# Altium schematic symbol library Schlib1.SchLib: 18 symbols
Pins are listed as number, name and electrical type; pins without a type are passive.

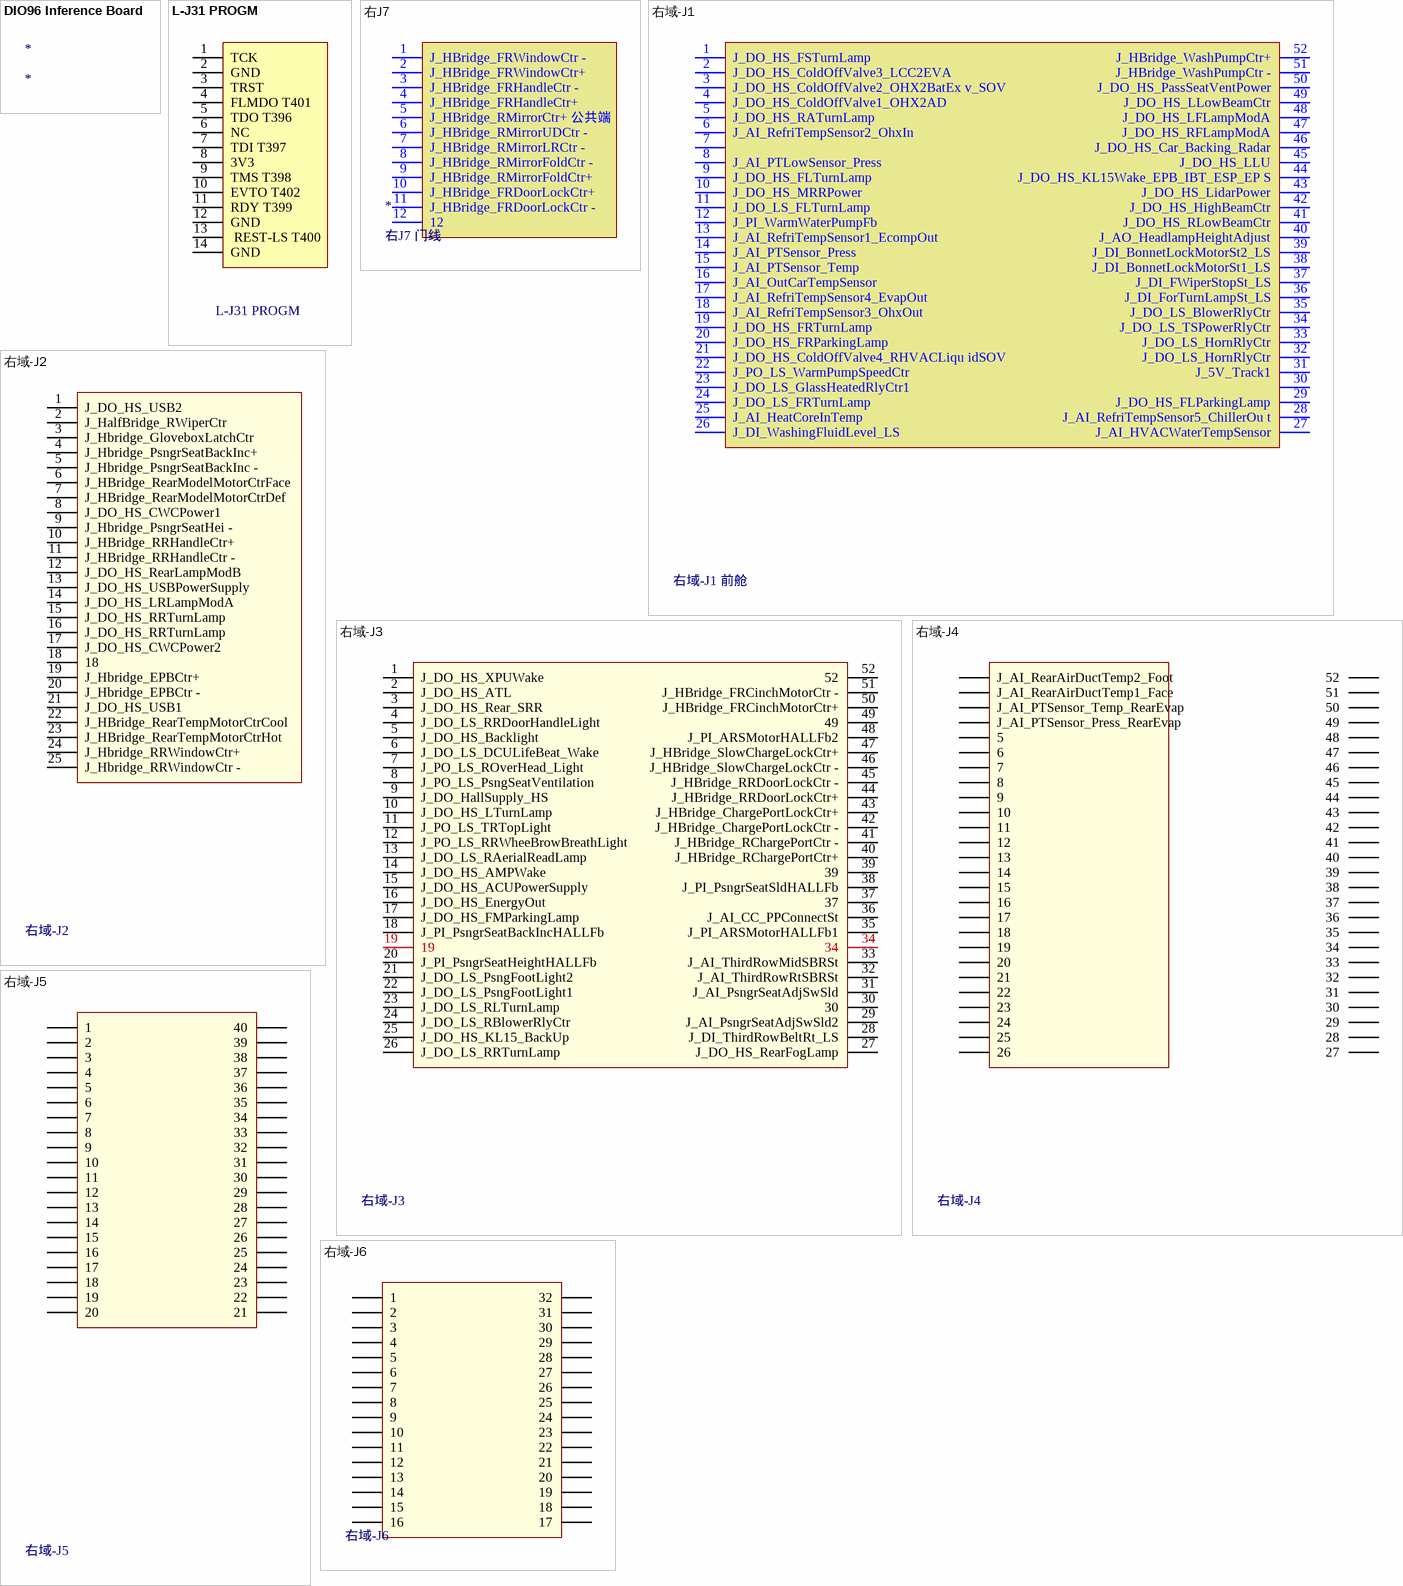
[diagram p0: symbols DIO96 Inference Board to 右域-J6]

## DIO96 Inference Board
designator *

## L-J31 PROGM
designator *
pins: 1 TCK, 2 GND, 3 TRST, 4 FLMDO T401, 5 TDO T396, 6 NC, 7 TDI T397, 8 3V3, 9 TMS T398, 10 EVTO T402, 11 RDY T399, 12 GND, 13  REST-LS T400, 14 GND

## 右J7
designator *, comment 右J7 门线
pins: 1 J_HBridge_FRWindowCtr -, 2 J_HBridge_FRWindowCtr+, 3 J_HBridge_FRHandleCtr -, 4 J_HBridge_FRHandleCtr+, 5 J_HBridge_RMirrorCtr+ 公共端, 6 J_HBridge_RMirrorUDCtr -, 7 J_HBridge_RMirrorLRCtr -, 8 J_HBridge_RMirrorFoldCtr -, 9 J_HBridge_RMirrorFoldCtr+, 10 J_HBridge_FRDoorLockCtr+, 11 J_HBridge_FRDoorLockCtr -, 12

## 右域-J1
designator *, comment 右域-J1 前舱
pins: 1 J_DO_HS_FSTurnLamp, 2 J_DO_HS_ColdOffValve3_LCC2EVA, 3 J_DO_HS_ColdOffValve2_OHX2BatEx v_SOV, 4 J_DO_HS_ColdOffValve1_OHX2AD, 5 J_DO_HS_RATurnLamp, 6 J_AI_RefriTempSensor2_OhxIn, 7, 8 J_AI_PTLowSensor_Press, 9 J_DO_HS_FLTurnLamp, 10 J_DO_HS_MRRPower, 11 J_DO_LS_FLTurnLamp, 12 J_PI_WarmWaterPumpFb, 13 J_AI_RefriTempSensor1_EcompOut, 14 J_AI_PTSensor_Press, 15 J_AI_PTSensor_Temp, 16 J_AI_OutCarTempSensor, 17 J_AI_RefriTempSensor4_EvapOut, 18 J_AI_RefriTempSensor3_OhxOut, 19 J_DO_HS_FRTurnLamp, 20 J_DO_HS_FRParkingLamp, 21 J_DO_HS_ColdOffValve4_RHVACLiqu idSOV, 22 J_PO_LS_WarmPumpSpeedCtr, 23 J_DO_LS_GlassHeatedRlyCtr1, 24 J_DO_LS_FRTurnLamp, 25 J_AI_HeatCoreInTemp, 26 J_DI_WashingFluidLevel_LS, 27 J_AI_HVACWaterTempSensor, 28 J_AI_RefriTempSensor5_ChillerOu t, 29 J_DO_HS_FLParkingLamp, 30, 31 J_5V_Track1, 32 J_DO_LS_HornRlyCtr, 33 J_DO_LS_HornRlyCtr, 34 J_DO_LS_TSPowerRlyCtr, 35 J_DO_LS_BlowerRlyCtr, 36 J_DI_ForTurnLampSt_LS, 37 J_DI_FWiperStopSt_LS, 38 J_DI_BonnetLockMotorSt1_LS, 39 J_DI_BonnetLockMotorSt2_LS, 40 J_AO_HeadlampHeightAdjust, 41 J_DO_HS_RLowBeamCtr, 42 J_DO_HS_HighBeamCtr, 43 J_DO_HS_LidarPower, 44 J_DO_HS_KL15Wake_EPB_IBT_ESP_EP S, 45 J_DO_HS_LLU, 46 J_DO_HS_Car_Backing_Radar, 47 J_DO_HS_RFLampModA, 48 J_DO_HS_LFLampModA, 49 J_DO_HS_LLowBeamCtr, 50 J_DO_HS_PassSeatVentPower, 51 J_HBridge_WashPumpCtr -, 52 J_HBridge_WashPumpCtr+

## 右域-J2
designator *
pins: 1 J_DO_HS_USB2, 2 J_HalfBridge_RWiperCtr, 3 J_Hbridge_GloveboxLatchCtr, 4 J_Hbridge_PsngrSeatBackInc+, 5 J_Hbridge_PsngrSeatBackInc -, 6 J_HBridge_RearModelMotorCtrFace, 7 J_HBridge_RearModelMotorCtrDef, 8 J_DO_HS_CWCPower1, 9 J_Hbridge_PsngrSeatHei -, 10 J_HBridge_RRHandleCtr+, 11 J_HBridge_RRHandleCtr -, 12 J_DO_HS_RearLampModB, 13 J_DO_HS_USBPowerSupply, 14 J_DO_HS_LRLampModA, 15 J_DO_HS_RRTurnLamp, 16 J_DO_HS_RRTurnLamp, 17 J_DO_HS_CWCPower2, 18, 19 J_Hbridge_EPBCtr+, 20 J_Hbridge_EPBCtr -, 21 J_DO_HS_USB1, 22 J_HBridge_RearTempMotorCtrCool, 23 J_HBridge_RearTempMotorCtrHot, 24 J_Hbridge_RRWindowCtr+, 25 J_Hbridge_RRWindowCtr -

## 右域-J3
designator *
pins: 1 J_DO_HS_XPUWake, 2 J_DO_HS_ATL, 3 J_DO_HS_Rear_SRR, 4 J_DO_LS_RRDoorHandleLight, 5 J_DO_HS_Backlight, 6 J_DO_LS_DCULifeBeat_Wake, 7 J_PO_LS_ROverHead_Light, 8 J_PO_LS_PsngSeatVentilation, 9 J_DO_HallSupply_HS, 10 J_DO_HS_LTurnLamp, 11 J_PO_LS_TRTopLight, 12 J_PO_LS_RRWheeBrowBreathLight, 13 J_DO_LS_RAerialReadLamp, 14 J_DO_HS_AMPWake, 15 J_DO_HS_ACUPowerSupply, 16 J_DO_HS_EnergyOut, 17 J_DO_HS_FMParkingLamp, 18 J_PI_PsngrSeatBackIncHALLFb, 19, 20 J_PI_PsngrSeatHeightHALLFb, 21 J_DO_LS_PsngFootLight2, 22 J_DO_LS_PsngFootLight1, 23 J_DO_LS_RLTurnLamp, 24 J_DO_LS_RBlowerRlyCtr, 25 J_DO_HS_KL15_BackUp, 26 J_DO_LS_RRTurnLamp, 27 J_DO_HS_RearFogLamp, 28 J_DI_ThirdRowBeltRt_LS, 29 J_AI_PsngrSeatAdjSwSld2, 30, 31 J_AI_PsngrSeatAdjSwSld, 32 J_AI_ThirdRowRtSBRSt, 33 J_AI_ThirdRowMidSBRSt, 34, 35 J_PI_ARSMotorHALLFb1, 36 J_AI_CC_PPConnectSt, 37, 38 J_PI_PsngrSeatSldHALLFb, 39, 40 J_HBridge_RChargePortCtr+, 41 J_HBridge_RChargePortCtr -, 42 J_HBridge_ChargePortLockCtr -, 43 J_HBridge_ChargePortLockCtr+, 44 J_HBridge_RRDoorLockCtr+, 45 J_HBridge_RRDoorLockCtr -, 46 J_HBridge_SlowChargeLockCtr -, 47 J_HBridge_SlowChargeLockCtr+, 48 J_PI_ARSMotorHALLFb2, 49, 50 J_HBridge_FRCinchMotorCtr+, 51 J_HBridge_FRCinchMotorCtr -, 52

## 右域-J4
designator *
pins: 1 J_AI_RearAirDuctTemp2_Foot, 2 J_AI_RearAirDuctTemp1_Face, 3 J_AI_PTSensor_Temp_RearEvap, 4 J_AI_PTSensor_Press_RearEvap, 5, 6, 7, 8, 9, 10, 11, 12, 13, 14, 15, 16, 17, 18, 19, 20, 21, 22, 23, 24, 25, 26, 27, 28, 29, 30, 31, 32, 33, 34, 35, 36, 37, 38, 39, 40, 41, 42, 43, 44, 45, 46, 47, 48, 49, 50, 51, 52

## 右域-J5
designator *
pins: 1, 2, 3, 4, 5, 6, 7, 8, 9, 10, 11, 12, 13, 14, 15, 16, 17, 18, 19, 20, 21, 22, 23, 24, 25, 26, 27, 28, 29, 30, 31, 32, 33, 34, 35, 36, 37, 38, 39, 40

## 右域-J6
designator *
pins: 1, 2, 3, 4, 5, 6, 7, 8, 9, 10, 11, 12, 13, 14, 15, 16, 17, 18, 19, 20, 21, 22, 23, 24, 25, 26, 27, 28, 29, 30, 31, 32

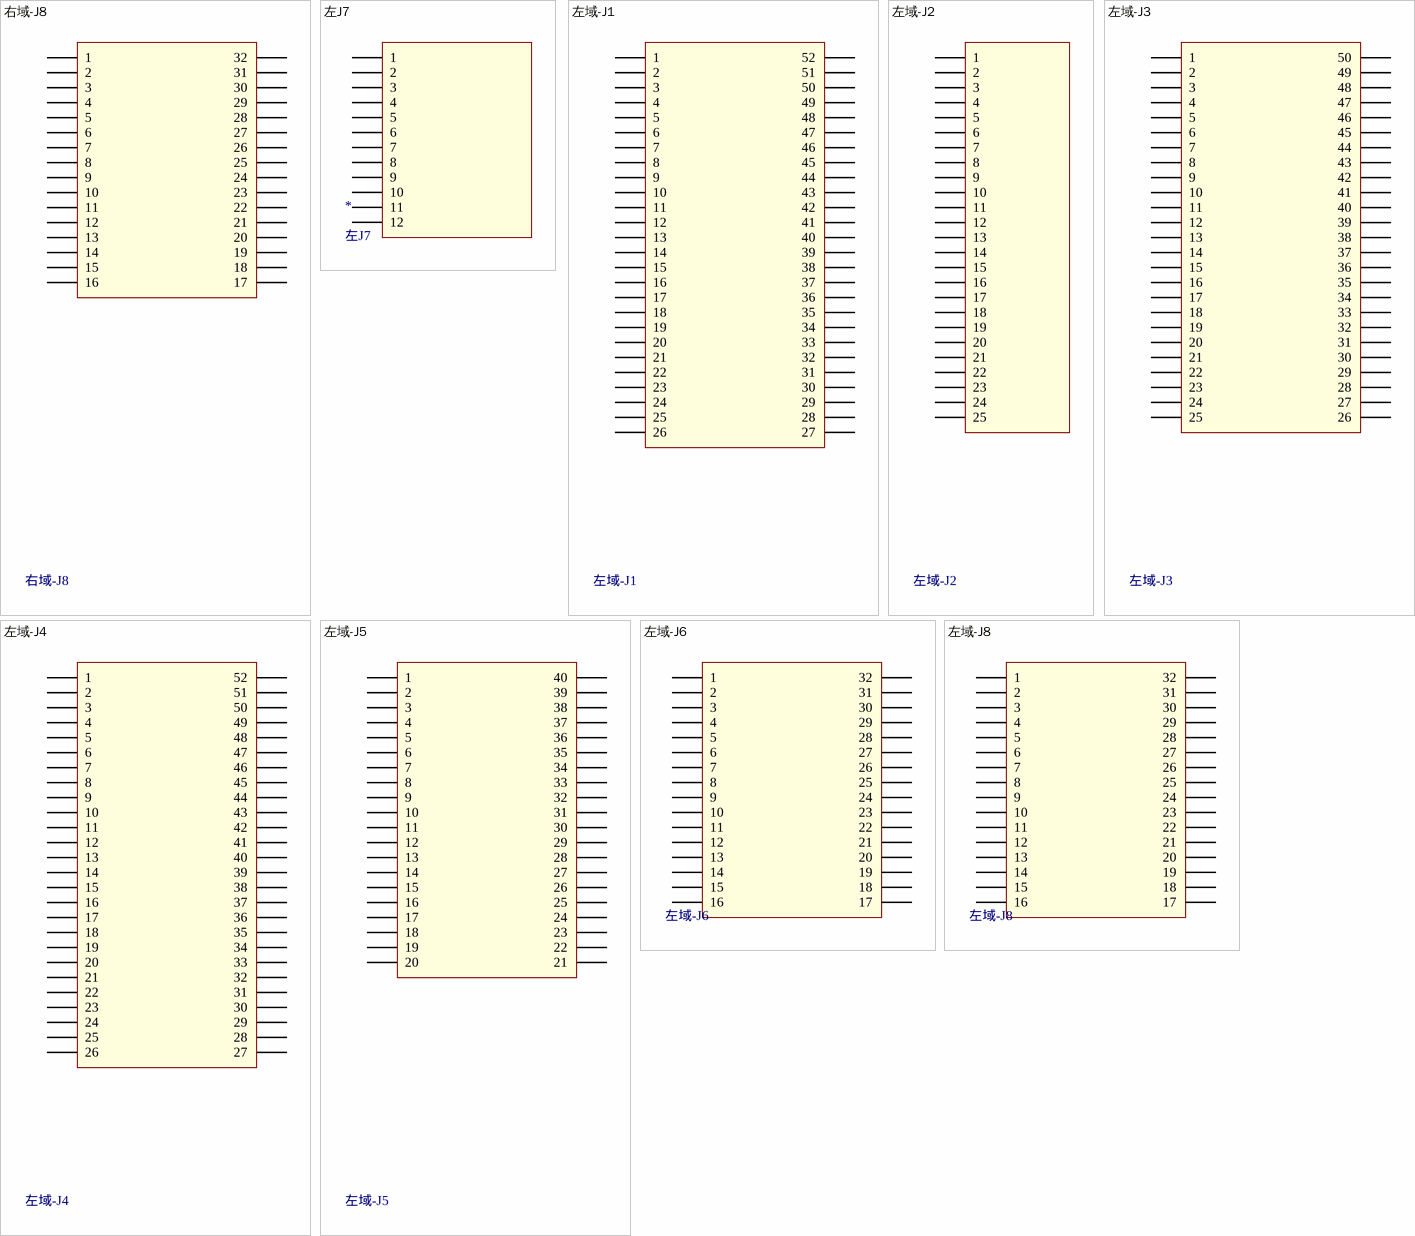
[diagram p1: symbols 右域-J8 to 左域-J8]

## 右域-J8
designator *
pins: 1, 2, 3, 4, 5, 6, 7, 8, 9, 10, 11, 12, 13, 14, 15, 16, 17, 18, 19, 20, 21, 22, 23, 24, 25, 26, 27, 28, 29, 30, 31, 32

## 左J7
designator *
pins: 1, 2, 3, 4, 5, 6, 7, 8, 9, 10, 11, 12

## 左域-J1
designator *
pins: 1, 2, 3, 4, 5, 6, 7, 8, 9, 10, 11, 12, 13, 14, 15, 16, 17, 18, 19, 20, 21, 22, 23, 24, 25, 26, 27, 28, 29, 30, 31, 32, 33, 34, 35, 36, 37, 38, 39, 40, 41, 42, 43, 44, 45, 46, 47, 48, 49, 50, 51, 52

## 左域-J2
designator *
pins: 1, 2, 3, 4, 5, 6, 7, 8, 9, 10, 11, 12, 13, 14, 15, 16, 17, 18, 19, 20, 21, 22, 23, 24, 25

## 左域-J3
designator *
pins: 1, 2, 3, 4, 5, 6, 7, 8, 9, 10, 11, 12, 13, 14, 15, 16, 17, 18, 19, 20, 21, 22, 23, 24, 25, 26, 27, 28, 29, 30, 31, 32, 33, 34, 35, 36, 37, 38, 39, 40, 41, 42, 43, 44, 45, 46, 47, 48, 49, 50

## 左域-J4
designator *
pins: 1, 2, 3, 4, 5, 6, 7, 8, 9, 10, 11, 12, 13, 14, 15, 16, 17, 18, 19, 20, 21, 22, 23, 24, 25, 26, 27, 28, 29, 30, 31, 32, 33, 34, 35, 36, 37, 38, 39, 40, 41, 42, 43, 44, 45, 46, 47, 48, 49, 50, 51, 52

## 左域-J5
designator *
pins: 1, 2, 3, 4, 5, 6, 7, 8, 9, 10, 11, 12, 13, 14, 15, 16, 17, 18, 19, 20, 21, 22, 23, 24, 25, 26, 27, 28, 29, 30, 31, 32, 33, 34, 35, 36, 37, 38, 39, 40

## 左域-J6
designator *
pins: 1, 2, 3, 4, 5, 6, 7, 8, 9, 10, 11, 12, 13, 14, 15, 16, 17, 18, 19, 20, 21, 22, 23, 24, 25, 26, 27, 28, 29, 30, 31, 32

## 左域-J8
designator *
pins: 1, 2, 3, 4, 5, 6, 7, 8, 9, 10, 11, 12, 13, 14, 15, 16, 17, 18, 19, 20, 21, 22, 23, 24, 25, 26, 27, 28, 29, 30, 31, 32